# EAGLE library part LTC3440EMSPBF (library ECE362)
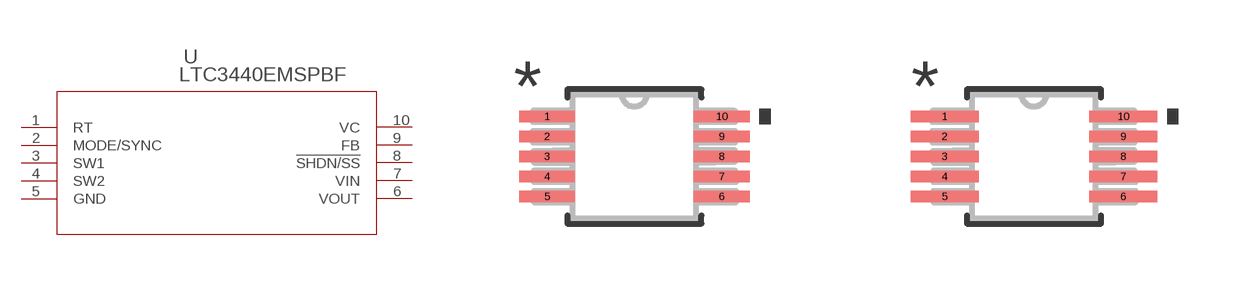
[diagram p1: symbol with the pads of MSOP-10_MS; footprints MSOP-10_MS, MSOP-10_MS-M]

Designator prefix U

## LTC3440EMSPBF (MANUFACTURER_PART_NUMBER: LTC3440EMS#PBF; VENDOR: Linear Technology)  [MSOP-10_MS]
1  RT  pas
2  MODE/SYNC  in
3  SW1  pas
4  SW2  pas
5  GND  pwr
6  VOUT  out
7  VIN  pwr
8  !SHDN/SS  in
9  FB  in
10  VC  out

## LTC3440EMSPBFMSOP-10_MS-M (MANUFACTURER_PART_NUMBER: LTC3440EMS#PBF; VENDOR: Linear Technology)  [MSOP-10_MS-M]
Pads as for MSOP-10_MS

## LTC3440EMSPBFMSOP-10_MS-L (MANUFACTURER_PART_NUMBER: LTC3440EMS#PBF; VENDOR: Linear Technology)  [MSOP-10_MS-L]
Pads as for MSOP-10_MS

## Footprint MSOP-10_MS (pad centres in mm)
smd 1.397 x 0.279: 1 -2.184,1.001; 2 -2.184,0.5; 3 -2.184,0; 4 -2.184,-0.5; 5 -2.184,-1.001; 6 2.184,-1.001; 7 2.184,-0.5; 8 2.184,0; 9 2.184,0.5; 10 2.184,1.001

## Footprint MSOP-10_MS-M (pad centres in mm)
smd 1.702 x 0.279: 1 -2.235,1.001; 2 -2.235,0.5; 3 -2.235,0; 4 -2.235,-0.5; 5 -2.235,-1.001; 6 2.235,-1.001; 7 2.235,-0.5; 8 2.235,0; 9 2.235,0.5; 10 2.235,1.001

## Footprint MSOP-10_MS-L (pad centres in mm)
smd 1.092 x 0.279: 1 -2.134,1.001; 2 -2.134,0.5; 3 -2.134,0; 4 -2.134,-0.5; 5 -2.134,-1.001; 6 2.134,-1.001; 7 2.134,-0.5; 8 2.134,0; 9 2.134,0.5; 10 2.134,1.001